# Altium footprint library EVP-BB2A9B000.PcbLib: 1 footprints
Each footprint in its own frame and in the unit in brackets; x right, y up, seen from the top. Pads: shape width x height; smd on the part's side, far side on the other; paste and mask are expansions set on the pad; w line width, h text height; cw(c..) or ccw(c..) is an arc to the next point about the centre after c.
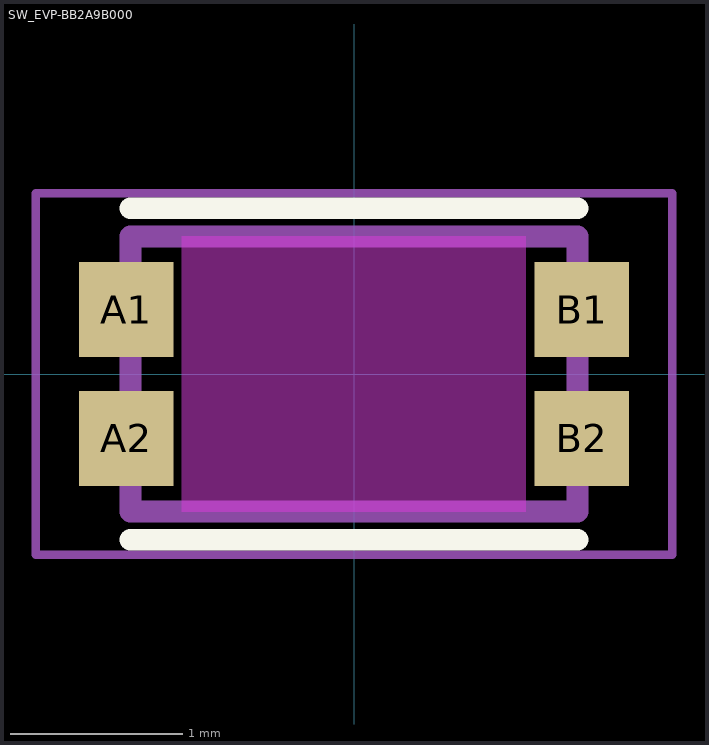
[diagram p0: the footprint, top view; thin cyan lines are the x and y axes]

## SW_EVP-BB2A9B000 [mm]
height 0.58
pads (4):
  rect 0.55x0.55 smd paste-0.05: A1(-1.325,0.375) A2(-1.325,-0.375) B1(1.325,0.375) B2(1.325,-0.375)
Top Overlay:
  lines w0.127: -1.3,-0.964 1.3,-0.964 ; -1.3,0.964 1.3,0.964
Keep-Out Layer:
  region: 1,-0.802 -1.002,-0.802 -1.002,0.8 1,0.8
Assembly Top:
  lines w0.127: -1.3,-0.8 -1.3,0.8 1.3,0.8 1.3,-0.8 -1.3,-0.8
Courtyard Top:
  lines w0.05: -1.85,-1.05 -1.85,1.05 1.85,1.05 1.85,-1.05 -1.85,-1.05
3D body "step_temp.STEP": height 0.63, standoff 0, extent -1.5,-0.9 1.5,0.9